# Altium footprint library Connectors - Barrel - Audio.PcbLib: 4 footprints
Each footprint in its own frame and in the unit in brackets; x right, y up, seen from the top. Pads: shape width x height; smd on the part's side, far side on the other; paste and mask are expansions set on the pad; w line width, h text height; cw(c..) or ccw(c..) is an arc to the next point about the centre after c.
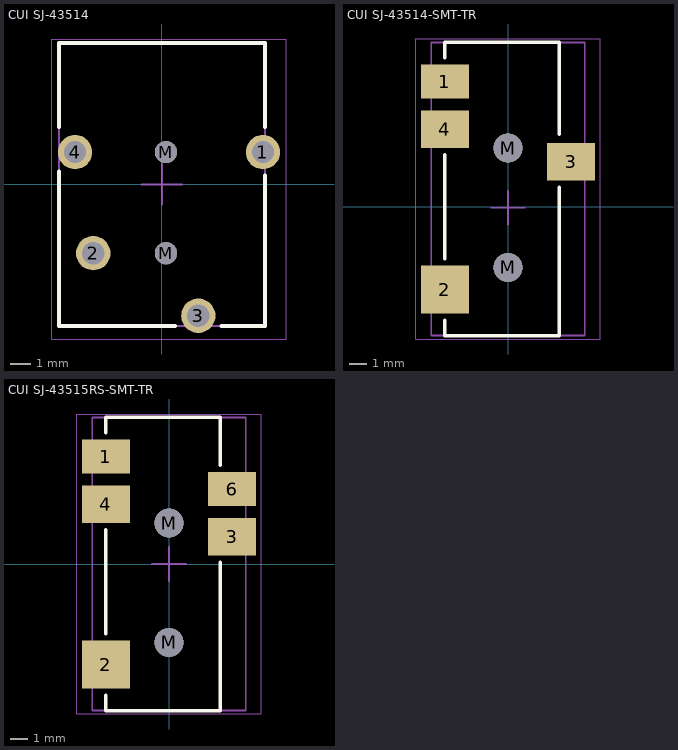
[diagram p0: the footprints below, top view; thin cyan lines are the x and y axes]

## CUI SJ-43514 [mm] "3.50mm (0.141\", 1/8\", Mini Plug) - Headphone Phone Jack Stereo (4 Conductor, TRRS) Connector Solder"
height 5
pads (6):
  round 1.7 hole 1.1: 1(5,1.6) 2(-3.4,-3.4) 3(1.8,-6.5) 4(-4.3,1.6)
  round 1.1 hole 1.1 unplated: M(0.2,-3.4) M(0.2,1.6)
Top Overlay:
  lines w0.2: -5.1,0.65 -5.1,-7 0.65,-7 ; -5.1,2.85 -5.1,7 5.1,7 5.1,2.85 ; 2.95,-7 5.1,-7 5.1,0.45
Mechanical 13:
  lines w0.1: -5.1,-7 5.1,-7 5.1,7 -5.1,7 -5.1,-7
Mechanical 15:
  lines w0.05: -5.45,-7.65 6.15,-7.65 6.15,7.2 -5.45,7.2 -5.45,-7.65
  lines w0.1: -1,0 0,0 ; 0,-1 0,0 ; 0,1 0,0 ; 1,0 0,0
3D body "CUI - SJ-43514.step": height 5.25, standoff -2, extent -5.1,-7 5.1,7

## CUI SJ-43514-SMT-TR [mm] "3.50mm (0.141\", 1/8\", Mini Plug) - Headphone Phone Jack Stereo (4 Conductor, TRRS) Connector Solder"
height 5
pads (6):
  rect 2.8x2 smd: 1(-3.716,7.348)
  rect 2.8x2.8 smd: 2(-3.716,-4.852)
  rect 2.8x2.2 smd: 3(3.684,2.648) 4(-3.716,4.548)
  round 1.7 hole 1.7 unplated: M(-0.016,-3.552) M(-0.016,3.448)
Top Overlay:
  lines w0.2: -3.716,-6.652 -3.716,-7.552 2.984,-7.552 2.984,1.148 ; -3.716,-3.052 -3.716,3.048 ; -3.716,8.748 -3.716,9.648 2.984,9.648 2.984,4.248
Mechanical 13:
  circle w0.1: c-3.716,7.348 r0.721
  circle w0.1: c-3.716,7.348 r0.762
  lines w0.1: -4.516,-7.552 -4.516,9.648 4.484,9.648 4.484,-7.552 -4.516,-7.552
Mechanical 15:
  lines w0.05: -5.416,-7.752 -5.416,9.848 5.384,9.848 5.384,-7.752 -5.416,-7.752
  lines w0.1: -1.016,-0.052 -0.016,-0.052 ; -0.016,-1.052 -0.016,-0.052 ; -0.016,0.948 -0.016,-0.052 ; 0.984,-0.052 -0.016,-0.052
3D body "CUI - SJ-43515-SMT-TR.step": height 5, standoff -0.8, extent -4.516,-7.552 4.484,9.648

## CUI SJ-43515RS-SMT-TR [mm] "3.50mm (0.141\", 1/8\", Mini Plug) - Headphone Phone Jack Stereo (4 Conductor, TRRS) Connector Solder"
height 5
pads (7):
  rect 2.8x2 smd: 1(-3.717,6.321) 6(3.683,4.421)
  rect 2.8x2.8 smd: 2(-3.717,-5.879)
  rect 2.8x2.2 smd: 3(3.683,1.621) 4(-3.717,3.521)
  round 1.7 hole 1.7 unplated: M(-0.017,-4.579) M(-0.017,2.421)
Top Overlay:
  lines w0.2: -3.717,-7.679 -3.717,-8.579 2.983,-8.579 2.983,0.121 ; -3.717,-4.079 -3.717,2.021 ; -3.717,7.721 -3.717,8.621 2.983,8.621 2.983,5.821
Mechanical 13:
  circle w0.1: c-3.717,6.321 r0.721
  circle w0.1: c-3.717,6.321 r0.762
  lines w0.1: -4.517,-8.579 -4.517,8.621 4.483,8.621 4.483,-8.579 -4.517,-8.579
Mechanical 15:
  lines w0.05: -5.417,-8.779 -5.417,8.821 5.383,8.821 5.383,-8.779 -5.417,-8.779
  lines w0.1: -1.017,0.021 -0.017,0.021 ; -0.017,-0.979 -0.017,0.021 ; -0.017,1.021 -0.017,0.021 ; 0.983,0.021 -0.017,0.021
3D body "CUI - SJ-43515-SMT-TR.step": height 5, standoff -0.8, extent -4.517,-8.579 4.483,8.621

## PCBComponent_1 [mm]